# EAGLE library part MN3208 (library analog-audio-chips)
2048-stage low voltage operation low noise BBD
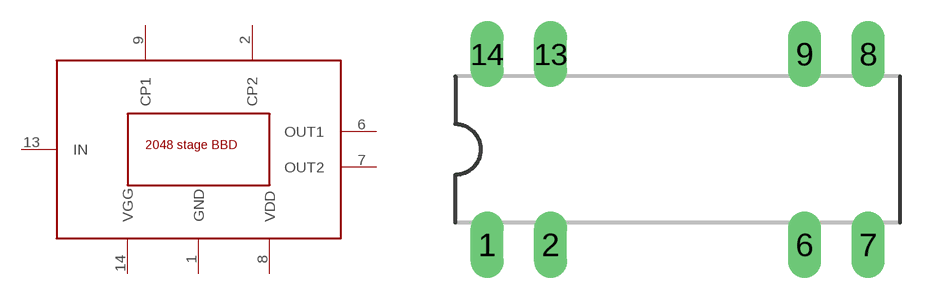
[diagram p5: symbol with the pads of DIL14_MN320X; footprint DIL14_MN320X]

Designator prefix -

## MN3208  [DIL14_MN320X]
1  GND
2  CP2
6  OUT1
7  OUT2
8  VDD
9  CP1
13  IN
14  VGG

## Footprint DIL14_MN320X (pad centres in mm)
Dual In Line Package
drill 0.813 long: 1 -7.62,-3.81; 2 -5.08,-3.81; 6 5.08,-3.81; 7 7.62,-3.81; 8 7.62,3.81; 9 5.08,3.81; 13 -5.08,3.81; 14 -7.62,3.81